# EAGLE library part JOYSTICK (library AdafruitJoystick)
Basic version of the Adafruit 2-Axis Analog Thumbstick (PID: 2765). With credits to this (https://github.com/adafruit/Adafruit-Mini-Analog-Thumbstick-Breakout-PCB)
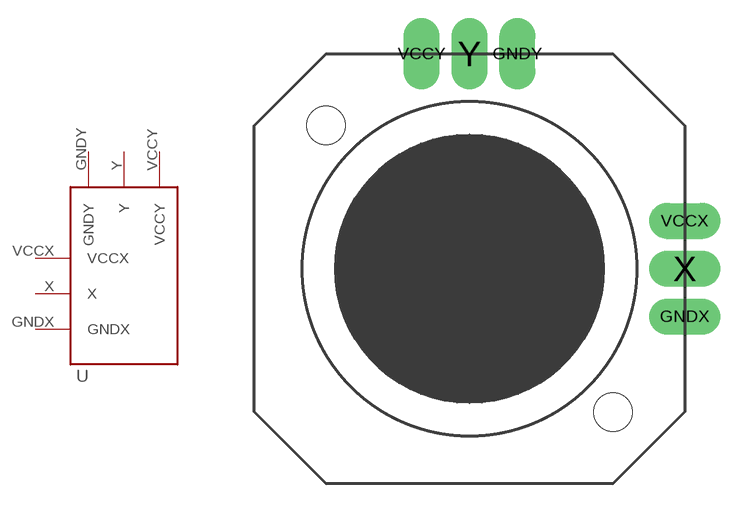
[diagram p0: symbol with the pads of JOYSTICK; footprint JOYSTICK]

Designator prefix -

## JOYSTICKADAFRUIT  [JOYSTICK]
GNDX  GNDX
GNDY  GNDY
VCCX  VCCX
VCCY  VCCY
X  X
Y  Y

## Footprint JOYSTICK (pad centres in mm)
drill 0.9 pad 1.5 long: GNDX 8.62,-2.33; GNDY 1.62,8.67; VCCX 8.62,1.67; VCCY -2.38,8.67; X 8.62,-0.33; Y -0.38,8.67
hole 1.6 at -6.38,5.67
hole 1.6 at 5.62,-6.33